# EAGLE library part LT3652 (library chargers)
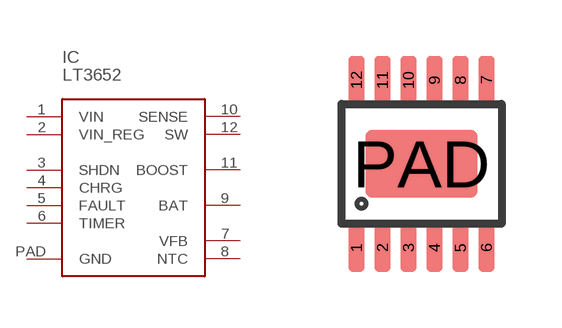
[diagram p2: symbol with the pads of MSOP12-PAD; footprint MSOP12-PAD]

Designator prefix IC

## LT3652  [MSOP12-PAD]
1  VIN
2  VIN_REG
3  SHDN
4  CHRG
5  FAULT
6  TIMER
7  VFB
8  NTC
9  BAT
10  SENSE
11  BOOST
12  SW
PAD  GND

## Footprint MSOP12-PAD (pad centres in mm)
smd 0.4 x 1.2: 1 -1.625,-2.1; 2 -0.975,-2.1; 3 -0.325,-2.1; 4 0.325,-2.1; 5 0.975,-2.1; 6 1.625,-2.1; 7 1.625,2.1; 8 0.975,2.1; 9 0.325,2.1; 10 -0.325,2.1; 11 -0.975,2.1; 12 -1.625,2.1
smd 2.8 x 1.7: PAD 0,0